# EAGLE library part TPS77633 (library untitled)
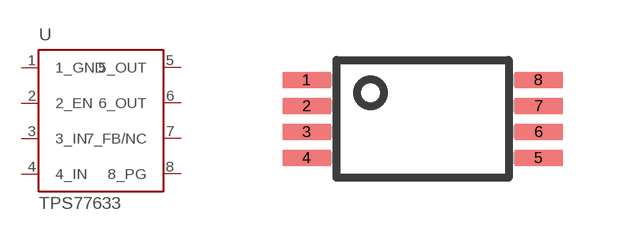
[diagram p0: symbol with the pads of R-PDSO-G08; footprint R-PDSO-G08]

Designator prefix -

## TPS77633  [R-PDSO-G08]
1  1_GND  pwr
2  2_EN  in
3  3_IN  in
4  4_IN  pwr
5  5_OUT  oc
6  6_OUT  oc
7  7_FB/NC  in
8  8_PG  in

## Footprint R-PDSO-G08 (pad centres in mm)
PLASTIC SMALL-OUTLINE PACKAGE, SO 8 JEDEC MO-153 Source: www.ti.com/.. slvs087l.pdf
smd 1.2 x 0.4: 1 -2.9,0.975; 2 -2.9,0.325; 3 -2.9,-0.325; 4 -2.9,-0.975; 5 2.9,-0.975; 6 2.9,-0.325; 7 2.9,0.325; 8 2.9,0.975